# Altium footprint library Connector.PcbLib: 2 footprints
Each footprint in its own frame and in the unit in brackets; x right, y up, seen from the top. Pads: shape width x height; smd on the part's side, far side on the other; paste and mask are expansions set on the pad; w line width, h text height; cw(c..) or ccw(c..) is an arc to the next point about the centre after c.
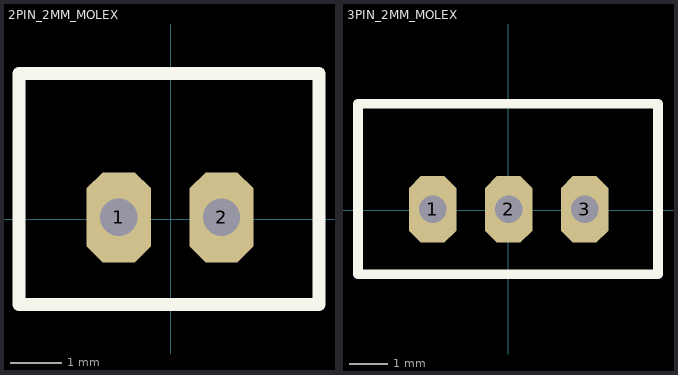
[diagram p0: the footprints below, top view; thin cyan lines are the x and y axes]

## 2PIN_2MM_MOLEX [mm]
pads (2):
  oct 1.25x1.75 hole 0.725: 1(-1.014,0.04) 2(0.986,0.04)
Top Overlay:
  lines w0.254: -2.953,-1.66 2.882,-1.66 2.882,2.84 -2.953,2.84 -2.953,-1.66
3D body "B2B-PH-K-S 3D Model.step": height 6, standoff -3.3, extent -2.957,-1.66 2.943,2.84

## 3PIN_2MM_MOLEX [mm]
pads (3):
  oct 1.25x1.75 hole 0.725: 1(-1.986,0.031) 2(0.014,0.031) 3(2.014,0.031)
Top Overlay:
  lines w0.254: -3.946,-1.68 3.942,-1.68 3.942,2.81 -3.946,2.81 -3.946,-1.68
3D body "B3B-PH-K-S 3D Model.step": height 6, standoff -3.3, extent -3.935,-1.69 3.965,2.81